# Altium integrated library WCAP-AS5H_rev15a.intlib: 51 symbols (part 1 of 2)
Pins are listed as number, name and electrical type; pins without a type are passive.

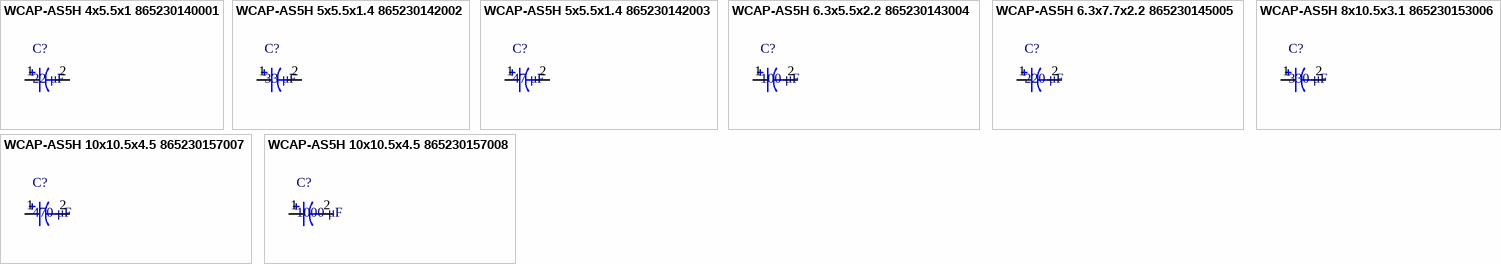
[diagram p0: symbols WCAP-AS5H 4x5.5x1 865230140001 to WCAP-AS5H 10x10.5x4.5 865230157008]

## WCAP-AS5H 4x5.5x1 865230140001
designator C?, comment 22 μF
WCAP-AS5H Aluminum Electrolytic Capacitors , 22 μF; + / - 20%; 6,3 V , 4 x 5,5; Manufacturer: Wurth Elektronik; partNo: 865230140001; E-mail: libraries@we-online.com; Characteristics: Aluminum Electrolytic Capacitor; Recommended soldering: Reflow; Operating temperature: –40 °C to +105 °C; Long life product series; Load life: 5000 h @ +105 °C; ComponentLink1Description: Manufacturer; ComponentLink1URL: http://www.we-online.com; ComponentLink2Description: Datasheet; ComponentLink2URL: http://katalog.we-online.de/pbs/datasheet/865230140001.pdf; Created by: Karrer Zheng; Created Date: 6/12/2015; Capacitance: 22 μF; Application: Applied to circuit with higher requirements for long life, and can be use for filtering in switching power supply, DC-DC power supply module,conversion adapter, charger, DC motor circuit filter, digital audio, digital TV, digital camera, digital video camera, satellite receivers, equipment control panel power supply and etc.
footprint WCAP-AS5H 4x5.5x1
pins: 1, 2

## WCAP-AS5H 5x5.5x1.4 865230142002
designator C?, comment 33 μF
WCAP-AS5H Aluminum Electrolytic Capacitors , 33 μF; + / - 20%; 6,3 V , 5 x 5,5; Manufacturer: Wurth Elektronik; partNo: 865230142002; E-mail: libraries@we-online.com; Characteristics: Aluminum Electrolytic Capacitor; Recommended soldering: Reflow; Operating temperature: –40 °C to +105 °C; Long life product series; Load life: 5000 h @ +105 °C; ComponentLink1Description: Manufacturer; ComponentLink1URL: http://www.we-online.com; ComponentLink2Description: Datasheet; ComponentLink2URL: http://katalog.we-online.de/pbs/datasheet/865230142002.pdf; Created by: Karrer Zheng; Created Date: 6/12/2015; Capacitance: 33 μF; Application: Applied to circuit with higher requirements for long life, and can be use for filtering in switching power supply, DC-DC power supply module,conversion adapter, charger, DC motor circuit filter, digital audio, digital TV, digital camera, digital video camera, satellite receivers, equipment control panel power supply and etc.
footprint WCAP-AS5H 5x5.5x1.4
pins: 1, 2

## WCAP-AS5H 5x5.5x1.4 865230142003
designator C?, comment 47 μF
WCAP-AS5H Aluminum Electrolytic Capacitors , 47 μF; + / - 20%; 6,3 V , 5 x 5,5; Manufacturer: Wurth Elektronik; partNo: 865230142003; E-mail: libraries@we-online.com; Characteristics: Aluminum Electrolytic Capacitor; Recommended soldering: Reflow; Operating temperature: –40 °C to +105 °C; Long life product series; Load life: 5000 h @ +105 °C; ComponentLink1Description: Manufacturer; ComponentLink1URL: http://www.we-online.com; ComponentLink2Description: Datasheet; ComponentLink2URL: http://katalog.we-online.de/pbs/datasheet/865230142003.pdf; Created by: Karrer Zheng; Created Date: 6/12/2015; Capacitance: 47 μF; Application: Applied to circuit with higher requirements for long life, and can be use for filtering in switching power supply, DC-DC power supply module,conversion adapter, charger, DC motor circuit filter, digital audio, digital TV, digital camera, digital video camera, satellite receivers, equipment control panel power supply and etc.
footprint WCAP-AS5H 5x5.5x1.4
pins: 1, 2

## WCAP-AS5H 6.3x5.5x2.2 865230143004
designator C?, comment 100 μF
WCAP-AS5H Aluminum Electrolytic Capacitors , 100 μF; + / - 20%; 6,3 V , 6,3 x 5,5; Manufacturer: Wurth Elektronik; partNo: 865230143004; E-mail: libraries@we-online.com; Characteristics: Aluminum Electrolytic Capacitor; Recommended soldering: Reflow; Operating temperature: –40 °C to +105 °C; Long life product series; Load life: 5000 h @ +105 °C; ComponentLink1Description: Manufacturer; ComponentLink1URL: http://www.we-online.com; ComponentLink2Description: Datasheet; ComponentLink2URL: http://katalog.we-online.de/pbs/datasheet/865230143004.pdf; Created by: Karrer Zheng; Created Date: 6/12/2015; Capacitance: 100 μF; Application: Applied to circuit with higher requirements for long life, and can be use for filtering in switching power supply, DC-DC power supply module,conversion adapter, charger, DC motor circuit filter, digital audio, digital TV, digital camera, digital video camera, satellite receivers, equipment control panel power supply and etc.
footprint WCAP-AS5H 6.3x5.5x2.2
pins: 1, 2

## WCAP-AS5H 6.3x7.7x2.2 865230145005
designator C?, comment 220 μF
WCAP-AS5H Aluminum Electrolytic Capacitors , 220 μF; + / - 20%; 6,3 V , 6,3 x 7,7; Manufacturer: Wurth Elektronik; partNo: 865230145005; E-mail: libraries@we-online.com; Characteristics: Aluminum Electrolytic Capacitor; Recommended soldering: Reflow; Operating temperature: –40 °C to +105 °C; Long life product series; Load life: 5000 h @ +105 °C; ComponentLink1Description: Manufacturer; ComponentLink1URL: http://www.we-online.com; ComponentLink2Description: Datasheet; ComponentLink2URL: http://katalog.we-online.de/pbs/datasheet/865230145005.pdf; Created by: Karrer Zheng; Created Date: 6/12/2015; Capacitance: 220 μF; Application: Applied to circuit with higher requirements for long life, and can be use for filtering in switching power supply, DC-DC power supply module,conversion adapter, charger, DC motor circuit filter, digital audio, digital TV, digital camera, digital video camera, satellite receivers, equipment control panel power supply and etc.
footprint WCAP-AS5H 6.3x7.7x2.2
pins: 1, 2

## WCAP-AS5H 8x10.5x3.1 865230153006
designator C?, comment 330 μF
WCAP-AS5H Aluminum Electrolytic Capacitors , 330 μF; + / - 20%; 6,3 V , 8 x 10,5; Manufacturer: Wurth Elektronik; partNo: 865230153006; E-mail: libraries@we-online.com; Characteristics: Aluminum Electrolytic Capacitor; Recommended soldering: Reflow; Operating temperature: –40 °C to +105 °C; Long life product series; Load life: 5000 h @ +105 °C; ComponentLink1Description: Manufacturer; ComponentLink1URL: http://www.we-online.com; ComponentLink2Description: Datasheet; ComponentLink2URL: http://katalog.we-online.de/pbs/datasheet/865230153006.pdf; Created by: Karrer Zheng; Created Date: 6/12/2015; Capacitance: 330 μF; Application: Applied to circuit with higher requirements for long life, and can be use for filtering in switching power supply, DC-DC power supply module,conversion adapter, charger, DC motor circuit filter, digital audio, digital TV, digital camera, digital video camera, satellite receivers, equipment control panel power supply and etc.
footprint WCAP-AS5H 8x10.5x3.1
pins: 1, 2

## WCAP-AS5H 10x10.5x4.5 865230157007
designator C?, comment 470 μF
WCAP-AS5H Aluminum Electrolytic Capacitors , 470 μF; + / - 20%; 6,3 V , 10 x 10,5; Manufacturer: Wurth Elektronik; partNo: 865230157007; E-mail: libraries@we-online.com; Characteristics: Aluminum Electrolytic Capacitor; Recommended soldering: Reflow; Operating temperature: –40 °C to +105 °C; Long life product series; Load life: 5000 h @ +105 °C; ComponentLink1Description: Manufacturer; ComponentLink1URL: http://www.we-online.com; ComponentLink2Description: Datasheet; ComponentLink2URL: http://katalog.we-online.de/pbs/datasheet/865230157007.pdf; Created by: Karrer Zheng; Created Date: 6/12/2015; Capacitance: 470 μF; Application: Applied to circuit with higher requirements for long life, and can be use for filtering in switching power supply, DC-DC power supply module,conversion adapter, charger, DC motor circuit filter, digital audio, digital TV, digital camera, digital video camera, satellite receivers, equipment control panel power supply and etc.
footprint WCAP-AS5H 10x10.5x4.5
pins: 1, 2

## WCAP-AS5H 10x10.5x4.5 865230157008
designator C?, comment 1000 μF
WCAP-AS5H Aluminum Electrolytic Capacitors , 1000 μF; + / - 20%; 6,3 V , 10 x 10,5; Manufacturer: Wurth Elektronik; partNo: 865230157008; E-mail: libraries@we-online.com; Characteristics: Aluminum Electrolytic Capacitor; Recommended soldering: Reflow; Operating temperature: –40 °C to +105 °C; Long life product series; Load life: 5000 h @ +105 °C; ComponentLink1Description: Manufacturer; ComponentLink1URL: http://www.we-online.com; ComponentLink2Description: Datasheet; ComponentLink2URL: http://katalog.we-online.de/pbs/datasheet/865230157008.pdf; Created by: Karrer Zheng; Created Date: 6/12/2015; Capacitance: 1000 μF; Application: Applied to circuit with higher requirements for long life, and can be use for filtering in switching power supply, DC-DC power supply module,conversion adapter, charger, DC motor circuit filter, digital audio, digital TV, digital camera, digital video camera, satellite receivers, equipment control panel power supply and etc.
footprint WCAP-AS5H 10x10.5x4.5
pins: 1, 2


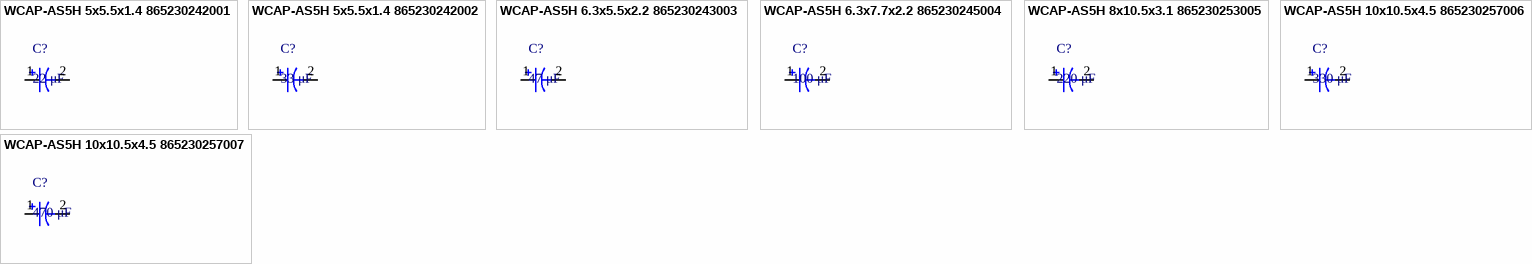
[diagram p1: symbols WCAP-AS5H 5x5.5x1.4 865230242001 to WCAP-AS5H 10x10.5x4.5 865230257007]

## WCAP-AS5H 5x5.5x1.4 865230242001
designator C?, comment 22 μF
WCAP-AS5H Aluminum Electrolytic Capacitors , 22 μF; + / - 20%; 10 V , 5 x 5,5; Manufacturer: Wurth Elektronik; partNo: 865230242001; E-mail: libraries@we-online.com; Characteristics: Aluminum Electrolytic Capacitor; Recommended soldering: Reflow; Operating temperature: –40 °C to +105 °C; Long life product series; Load life: 5000 h @ +105 °C; ComponentLink1Description: Manufacturer; ComponentLink1URL: http://www.we-online.com; ComponentLink2Description: Datasheet; ComponentLink2URL: http://katalog.we-online.de/pbs/datasheet/865230242001.pdf; Created by: Karrer Zheng; Created Date: 6/12/2015; Capacitance: 22 μF; Application: Applied to circuit with higher requirements for long life, and can be use for filtering in switching power supply, DC-DC power supply module,conversion adapter, charger, DC motor circuit filter, digital audio, digital TV, digital camera, digital video camera, satellite receivers, equipment control panel power supply and etc.
footprint WCAP-AS5H 5x5.5x1.4
pins: 1, 2

## WCAP-AS5H 5x5.5x1.4 865230242002
designator C?, comment 33 μF
WCAP-AS5H Aluminum Electrolytic Capacitors , 33 μF; + / - 20%; 10 V , 5 x 5,5; Manufacturer: Wurth Elektronik; partNo: 865230242002; E-mail: libraries@we-online.com; Characteristics: Aluminum Electrolytic Capacitor; Recommended soldering: Reflow; Operating temperature: –40 °C to +105 °C; Long life product series; Load life: 5000 h @ +105 °C; ComponentLink1Description: Manufacturer; ComponentLink1URL: http://www.we-online.com; ComponentLink2Description: Datasheet; ComponentLink2URL: http://katalog.we-online.de/pbs/datasheet/865230242002.pdf; Created by: Karrer Zheng; Created Date: 6/12/2015; Capacitance: 33 μF; Application: Applied to circuit with higher requirements for long life, and can be use for filtering in switching power supply, DC-DC power supply module,conversion adapter, charger, DC motor circuit filter, digital audio, digital TV, digital camera, digital video camera, satellite receivers, equipment control panel power supply and etc.
footprint WCAP-AS5H 5x5.5x1.4
pins: 1, 2

## WCAP-AS5H 6.3x5.5x2.2 865230243003
designator C?, comment 47 μF
WCAP-AS5H Aluminum Electrolytic Capacitors , 47 μF; + / - 20%; 10 V , 6,3 x 5,5; Manufacturer: Wurth Elektronik; partNo: 865230243003; E-mail: libraries@we-online.com; Characteristics: Aluminum Electrolytic Capacitor; Recommended soldering: Reflow; Operating temperature: –40 °C to +105 °C; Long life product series; Load life: 5000 h @ +105 °C; ComponentLink1Description: Manufacturer; ComponentLink1URL: http://www.we-online.com; ComponentLink2Description: Datasheet; ComponentLink2URL: http://katalog.we-online.de/pbs/datasheet/865230243003.pdf; Created by: Karrer Zheng; Created Date: 6/12/2015; Capacitance: 47 μF; Application: Applied to circuit with higher requirements for long life, and can be use for filtering in switching power supply, DC-DC power supply module,conversion adapter, charger, DC motor circuit filter, digital audio, digital TV, digital camera, digital video camera, satellite receivers, equipment control panel power supply and etc.
footprint WCAP-AS5H 6.3x5.5x2.2
pins: 1, 2

## WCAP-AS5H 6.3x7.7x2.2 865230245004
designator C?, comment 100 μF
WCAP-AS5H Aluminum Electrolytic Capacitors , 100 μF; + / - 20%; 10 V , 6,3 x 7,7; Manufacturer: Wurth Elektronik; partNo: 865230245004; E-mail: libraries@we-online.com; Characteristics: Aluminum Electrolytic Capacitor; Recommended soldering: Reflow; Operating temperature: –40 °C to +105 °C; Long life product series; Load life: 5000 h @ +105 °C; ComponentLink1Description: Manufacturer; ComponentLink1URL: http://www.we-online.com; ComponentLink2Description: Datasheet; ComponentLink2URL: http://katalog.we-online.de/pbs/datasheet/865230245004.pdf; Created by: Karrer Zheng; Created Date: 6/12/2015; Capacitance: 100 μF; Application: Applied to circuit with higher requirements for long life, and can be use for filtering in switching power supply, DC-DC power supply module,conversion adapter, charger, DC motor circuit filter, digital audio, digital TV, digital camera, digital video camera, satellite receivers, equipment control panel power supply and etc.
footprint WCAP-AS5H 6.3x7.7x2.2
pins: 1, 2

## WCAP-AS5H 8x10.5x3.1 865230253005
designator C?, comment 220 μF
WCAP-AS5H Aluminum Electrolytic Capacitors , 220 μF; + / - 20%; 10 V , 8 x 10,5; Manufacturer: Wurth Elektronik; partNo: 865230253005; E-mail: libraries@we-online.com; Characteristics: Aluminum Electrolytic Capacitor; Recommended soldering: Reflow; Operating temperature: –40 °C to +105 °C; Long life product series; Load life: 5000 h @ +105 °C; ComponentLink1Description: Manufacturer; ComponentLink1URL: http://www.we-online.com; ComponentLink2Description: Datasheet; ComponentLink2URL: http://katalog.we-online.de/pbs/datasheet/865230253005.pdf; Created by: Karrer Zheng; Created Date: 6/12/2015; Capacitance: 220 μF; Application: Applied to circuit with higher requirements for long life, and can be use for filtering in switching power supply, DC-DC power supply module,conversion adapter, charger, DC motor circuit filter, digital audio, digital TV, digital camera, digital video camera, satellite receivers, equipment control panel power supply and etc.
footprint WCAP-AS5H 8x10.5x3.1
pins: 1, 2

## WCAP-AS5H 10x10.5x4.5 865230257006
designator C?, comment 330 μF
WCAP-AS5H Aluminum Electrolytic Capacitors , 330 μF; + / - 20%; 10 V , 10 x 10,5; Manufacturer: Wurth Elektronik; partNo: 865230257006; E-mail: libraries@we-online.com; Characteristics: Aluminum Electrolytic Capacitor; Recommended soldering: Reflow; Operating temperature: –40 °C to +105 °C; Long life product series; Load life: 5000 h @ +105 °C; ComponentLink1Description: Manufacturer; ComponentLink1URL: http://www.we-online.com; ComponentLink2Description: Datasheet; ComponentLink2URL: http://katalog.we-online.de/pbs/datasheet/865230257006.pdf; Created by: Karrer Zheng; Created Date: 6/12/2015; Capacitance: 330 μF; Application: Applied to circuit with higher requirements for long life, and can be use for filtering in switching power supply, DC-DC power supply module,conversion adapter, charger, DC motor circuit filter, digital audio, digital TV, digital camera, digital video camera, satellite receivers, equipment control panel power supply and etc.
footprint WCAP-AS5H 10x10.5x4.5
pins: 1, 2

## WCAP-AS5H 10x10.5x4.5 865230257007
designator C?, comment 470 μF
WCAP-AS5H Aluminum Electrolytic Capacitors , 470 μF; + / - 20%; 10 V , 10 x 10,5; Manufacturer: Wurth Elektronik; partNo: 865230257007; E-mail: libraries@we-online.com; Characteristics: Aluminum Electrolytic Capacitor; Recommended soldering: Reflow; Operating temperature: –40 °C to +105 °C; Long life product series; Load life: 5000 h @ +105 °C; ComponentLink1Description: Manufacturer; ComponentLink1URL: http://www.we-online.com; ComponentLink2Description: Datasheet; ComponentLink2URL: http://katalog.we-online.de/pbs/datasheet/865230257007.pdf; Created by: Karrer Zheng; Created Date: 6/12/2015; Capacitance: 470 μF; Application: Applied to circuit with higher requirements for long life, and can be use for filtering in switching power supply, DC-DC power supply module,conversion adapter, charger, DC motor circuit filter, digital audio, digital TV, digital camera, digital video camera, satellite receivers, equipment control panel power supply and etc.
footprint WCAP-AS5H 10x10.5x4.5
pins: 1, 2


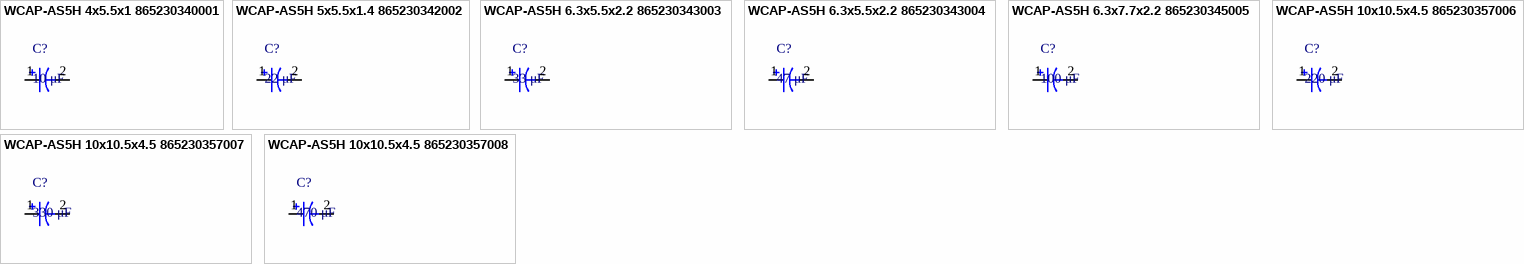
[diagram p2: symbols WCAP-AS5H 4x5.5x1 865230340001 to WCAP-AS5H 10x10.5x4.5 865230357008]

## WCAP-AS5H 4x5.5x1 865230340001
designator C?, comment 10 μF
WCAP-AS5H Aluminum Electrolytic Capacitors , 10 μF; + / - 20%; 16 V , 4 x 5,5; Manufacturer: Wurth Elektronik; partNo: 865230340001; E-mail: libraries@we-online.com; Characteristics: Aluminum Electrolytic Capacitor; Recommended soldering: Reflow; Operating temperature: –40 °C to +105 °C; Long life product series; Load life: 5000 h @ +105 °C; ComponentLink1Description: Manufacturer; ComponentLink1URL: http://www.we-online.com; ComponentLink2Description: Datasheet; ComponentLink2URL: http://katalog.we-online.de/pbs/datasheet/865230340001.pdf; Created by: Karrer Zheng; Created Date: 6/12/2015; Capacitance: 10 μF; Application: Applied to circuit with higher requirements for long life, and can be use for filtering in switching power supply, DC-DC power supply module,conversion adapter, charger, DC motor circuit filter, digital audio, digital TV, digital camera, digital video camera, satellite receivers, equipment control panel power supply and etc.
footprint WCAP-AS5H 4x5.5x1
pins: 1, 2

## WCAP-AS5H 5x5.5x1.4 865230342002
designator C?, comment 22 μF
WCAP-AS5H Aluminum Electrolytic Capacitors , 22 μF; + / - 20%; 16 V , 5 x 5,5; Manufacturer: Wurth Elektronik; partNo: 865230342002; E-mail: libraries@we-online.com; Characteristics: Aluminum Electrolytic Capacitor; Recommended soldering: Reflow; Operating temperature: –40 °C to +105 °C; Long life product series; Load life: 5000 h @ +105 °C; ComponentLink1Description: Manufacturer; ComponentLink1URL: http://www.we-online.com; ComponentLink2Description: Datasheet; ComponentLink2URL: http://katalog.we-online.de/pbs/datasheet/865230342002.pdf; Created by: Karrer Zheng; Created Date: 6/12/2015; Capacitance: 22 μF; Application: Applied to circuit with higher requirements for long life, and can be use for filtering in switching power supply, DC-DC power supply module,conversion adapter, charger, DC motor circuit filter, digital audio, digital TV, digital camera, digital video camera, satellite receivers, equipment control panel power supply and etc.
footprint WCAP-AS5H 5x5.5x1.4
pins: 1, 2

## WCAP-AS5H 6.3x5.5x2.2 865230343003
designator C?, comment 33 μF
WCAP-AS5H Aluminum Electrolytic Capacitors , 33 μF; + / - 20%; 16 V , 6,3 x 5,5; Manufacturer: Wurth Elektronik; partNo: 865230343003; E-mail: libraries@we-online.com; Characteristics: Aluminum Electrolytic Capacitor; Recommended soldering: Reflow; Operating temperature: –40 °C to +105 °C; Long life product series; Load life: 5000 h @ +105 °C; ComponentLink1Description: Manufacturer; ComponentLink1URL: http://www.we-online.com; ComponentLink2Description: Datasheet; ComponentLink2URL: http://katalog.we-online.de/pbs/datasheet/865230343003.pdf; Created by: Karrer Zheng; Created Date: 6/12/2015; Capacitance: 33 μF; Application: Applied to circuit with higher requirements for long life, and can be use for filtering in switching power supply, DC-DC power supply module,conversion adapter, charger, DC motor circuit filter, digital audio, digital TV, digital camera, digital video camera, satellite receivers, equipment control panel power supply and etc.
footprint WCAP-AS5H 6.3x5.5x2.2
pins: 1, 2

## WCAP-AS5H 6.3x5.5x2.2 865230343004
designator C?, comment 47 μF
WCAP-AS5H Aluminum Electrolytic Capacitors , 47 μF; + / - 20%; 16 V , 6,3 x 5,5; Manufacturer: Wurth Elektronik; partNo: 865230343004; E-mail: libraries@we-online.com; Characteristics: Aluminum Electrolytic Capacitor; Recommended soldering: Reflow; Operating temperature: –40 °C to +105 °C; Long life product series; Load life: 5000 h @ +105 °C; ComponentLink1Description: Manufacturer; ComponentLink1URL: http://www.we-online.com; ComponentLink2Description: Datasheet; ComponentLink2URL: http://katalog.we-online.de/pbs/datasheet/865230343004.pdf; Created by: Karrer Zheng; Created Date: 6/12/2015; Capacitance: 47 μF; Application: Applied to circuit with higher requirements for long life, and can be use for filtering in switching power supply, DC-DC power supply module,conversion adapter, charger, DC motor circuit filter, digital audio, digital TV, digital camera, digital video camera, satellite receivers, equipment control panel power supply and etc.
footprint WCAP-AS5H 6.3x5.5x2.2
pins: 1, 2

## WCAP-AS5H 6.3x7.7x2.2 865230345005
designator C?, comment 100 μF
WCAP-AS5H Aluminum Electrolytic Capacitors , 100 μF; + / - 20%; 16 V , 6,3 x 7,7; Manufacturer: Wurth Elektronik; partNo: 865230345005; E-mail: libraries@we-online.com; Characteristics: Aluminum Electrolytic Capacitor; Recommended soldering: Reflow; Operating temperature: –40 °C to +105 °C; Long life product series; Load life: 5000 h @ +105 °C; ComponentLink1Description: Manufacturer; ComponentLink1URL: http://www.we-online.com; ComponentLink2Description: Datasheet; ComponentLink2URL: http://katalog.we-online.de/pbs/datasheet/865230345005.pdf; Created by: Karrer Zheng; Created Date: 6/12/2015; Capacitance: 100 μF; Application: Applied to circuit with higher requirements for long life, and can be use for filtering in switching power supply, DC-DC power supply module,conversion adapter, charger, DC motor circuit filter, digital audio, digital TV, digital camera, digital video camera, satellite receivers, equipment control panel power supply and etc.
footprint WCAP-AS5H 6.3x7.7x2.2
pins: 1, 2

## WCAP-AS5H 10x10.5x4.5 865230357006
designator C?, comment 220 μF
WCAP-AS5H Aluminum Electrolytic Capacitors , 220 μF; + / - 20%; 16 V , 10 x 10,5; Manufacturer: Wurth Elektronik; partNo: 865230357006; E-mail: libraries@we-online.com; Characteristics: Aluminum Electrolytic Capacitor; Recommended soldering: Reflow; Operating temperature: –40 °C to +105 °C; Long life product series; Load life: 5000 h @ +105 °C; ComponentLink1Description: Manufacturer; ComponentLink1URL: http://www.we-online.com; ComponentLink2Description: Datasheet; ComponentLink2URL: http://katalog.we-online.de/pbs/datasheet/865230357006.pdf; Created by: Karrer Zheng; Created Date: 6/12/2015; Capacitance: 220 μF; Application: Applied to circuit with higher requirements for long life, and can be use for filtering in switching power supply, DC-DC power supply module,conversion adapter, charger, DC motor circuit filter, digital audio, digital TV, digital camera, digital video camera, satellite receivers, equipment control panel power supply and etc.
footprint WCAP-AS5H 10x10.5x4.5
pins: 1, 2

## WCAP-AS5H 10x10.5x4.5 865230357007
designator C?, comment 330 μF
WCAP-AS5H Aluminum Electrolytic Capacitors , 330 μF; + / - 20%; 16 V , 10 x 10,5; Manufacturer: Wurth Elektronik; partNo: 865230357007; E-mail: libraries@we-online.com; Characteristics: Aluminum Electrolytic Capacitor; Recommended soldering: Reflow; Operating temperature: –40 °C to +105 °C; Long life product series; Load life: 5000 h @ +105 °C; ComponentLink1Description: Manufacturer; ComponentLink1URL: http://www.we-online.com; ComponentLink2Description: Datasheet; ComponentLink2URL: http://katalog.we-online.de/pbs/datasheet/865230357007.pdf; Created by: Karrer Zheng; Created Date: 6/12/2015; Capacitance: 330 μF; Application: Applied to circuit with higher requirements for long life, and can be use for filtering in switching power supply, DC-DC power supply module,conversion adapter, charger, DC motor circuit filter, digital audio, digital TV, digital camera, digital video camera, satellite receivers, equipment control panel power supply and etc.
footprint WCAP-AS5H 10x10.5x4.5
pins: 1, 2

## WCAP-AS5H 10x10.5x4.5 865230357008
designator C?, comment 470 μF
WCAP-AS5H Aluminum Electrolytic Capacitors , 470 μF; + / - 20%; 16 V , 10 x 10,5; Manufacturer: Wurth Elektronik; partNo: 865230357008; E-mail: libraries@we-online.com; Characteristics: Aluminum Electrolytic Capacitor; Recommended soldering: Reflow; Operating temperature: –40 °C to +105 °C; Long life product series; Load life: 5000 h @ +105 °C; ComponentLink1Description: Manufacturer; ComponentLink1URL: http://www.we-online.com; ComponentLink2Description: Datasheet; ComponentLink2URL: http://katalog.we-online.de/pbs/datasheet/865230357008.pdf; Created by: Karrer Zheng; Created Date: 6/12/2015; Capacitance: 470 μF; Application: Applied to circuit with higher requirements for long life, and can be use for filtering in switching power supply, DC-DC power supply module,conversion adapter, charger, DC motor circuit filter, digital audio, digital TV, digital camera, digital video camera, satellite receivers, equipment control panel power supply and etc.
footprint WCAP-AS5H 10x10.5x4.5
pins: 1, 2


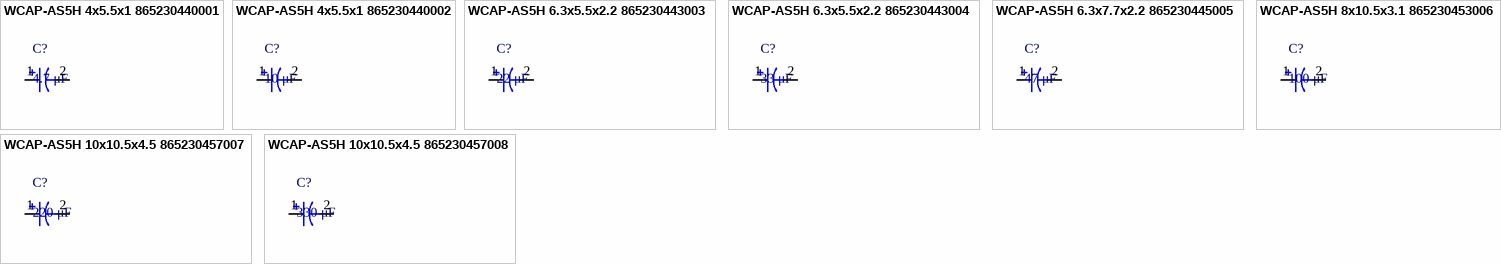
[diagram p3: symbols WCAP-AS5H 4x5.5x1 865230440001 to WCAP-AS5H 10x10.5x4.5 865230457008]

## WCAP-AS5H 4x5.5x1 865230440001
designator C?, comment 4.7 μF
WCAP-AS5H Aluminum Electrolytic Capacitors , 4,7 μF; + / - 20%; 25 V , 4 x 5,5; Manufacturer: Wurth Elektronik; partNo: 865230440001; E-mail: libraries@we-online.com; Characteristics: Aluminum Electrolytic Capacitor; Recommended soldering: Reflow; Operating temperature: –40 °C to +105 °C; Long life product series; Load life: 5000 h @ +105 °C; ComponentLink1Description: Manufacturer; ComponentLink1URL: http://www.we-online.com; ComponentLink2Description: Datasheet; ComponentLink2URL: http://katalog.we-online.de/pbs/datasheet/865230440001.pdf; Created by: Karrer Zheng; Created Date: 6/12/2015; Capacitance: 4.7 μF; Application: Applied to circuit with higher requirements for long life, and can be use for filtering in switching power supply, DC-DC power supply module,conversion adapter, charger, DC motor circuit filter, digital audio, digital TV, digital camera, digital video camera, satellite receivers, equipment control panel power supply and etc.
footprint WCAP-AS5H 4x5.5x1
pins: 1, 2

## WCAP-AS5H 4x5.5x1 865230440002
designator C?, comment 10 μF
WCAP-AS5H Aluminum Electrolytic Capacitors , 10 μF; + / - 20%; 25 V , 4 x 5,5; Manufacturer: Wurth Elektronik; partNo: 865230440002; E-mail: libraries@we-online.com; Characteristics: Aluminum Electrolytic Capacitor; Recommended soldering: Reflow; Operating temperature: –40 °C to +105 °C; Long life product series; Load life: 5000 h @ +105 °C; ComponentLink1Description: Manufacturer; ComponentLink1URL: http://www.we-online.com; ComponentLink2Description: Datasheet; ComponentLink2URL: http://katalog.we-online.de/pbs/datasheet/865230440002.pdf; Created by: Karrer Zheng; Created Date: 6/12/2015; Capacitance: 10 μF; Application: Applied to circuit with higher requirements for long life, and can be use for filtering in switching power supply, DC-DC power supply module,conversion adapter, charger, DC motor circuit filter, digital audio, digital TV, digital camera, digital video camera, satellite receivers, equipment control panel power supply and etc.
footprint WCAP-AS5H 4x5.5x1
pins: 1, 2

## WCAP-AS5H 6.3x5.5x2.2 865230443003
designator C?, comment 22 μF
WCAP-AS5H Aluminum Electrolytic Capacitors , 22 μF; + / - 20%; 25 V , 6,3 x 5,5; Manufacturer: Wurth Elektronik; partNo: 865230443003; E-mail: libraries@we-online.com; Characteristics: Aluminum Electrolytic Capacitor; Recommended soldering: Reflow; Operating temperature: –40 °C to +105 °C; Long life product series; Load life: 5000 h @ +105 °C; ComponentLink1Description: Manufacturer; ComponentLink1URL: http://www.we-online.com; ComponentLink2Description: Datasheet; ComponentLink2URL: http://katalog.we-online.de/pbs/datasheet/865230443003.pdf; Created by: Karrer Zheng; Created Date: 6/12/2015; Capacitance: 22 μF; Application: Applied to circuit with higher requirements for long life, and can be use for filtering in switching power supply, DC-DC power supply module,conversion adapter, charger, DC motor circuit filter, digital audio, digital TV, digital camera, digital video camera, satellite receivers, equipment control panel power supply and etc.
footprint WCAP-AS5H 6.3x5.5x2.2
pins: 1, 2

## WCAP-AS5H 6.3x5.5x2.2 865230443004
designator C?, comment 33 μF
WCAP-AS5H Aluminum Electrolytic Capacitors , 33 μF; + / - 20%; 25 V , 6,3 x 5,5; Manufacturer: Wurth Elektronik; partNo: 865230443004; E-mail: libraries@we-online.com; Characteristics: Aluminum Electrolytic Capacitor; Recommended soldering: Reflow; Operating temperature: –40 °C to +105 °C; Long life product series; Load life: 5000 h @ +105 °C; ComponentLink1Description: Manufacturer; ComponentLink1URL: http://www.we-online.com; ComponentLink2Description: Datasheet; ComponentLink2URL: http://katalog.we-online.de/pbs/datasheet/865230443004.pdf; Created by: Karrer Zheng; Created Date: 6/12/2015; Capacitance: 33 μF; Application: Applied to circuit with higher requirements for long life, and can be use for filtering in switching power supply, DC-DC power supply module,conversion adapter, charger, DC motor circuit filter, digital audio, digital TV, digital camera, digital video camera, satellite receivers, equipment control panel power supply and etc.
footprint WCAP-AS5H 6.3x5.5x2.2
pins: 1, 2

## WCAP-AS5H 6.3x7.7x2.2 865230445005
designator C?, comment 47 μF
WCAP-AS5H Aluminum Electrolytic Capacitors , 47 μF; + / - 20%; 25 V , 6,3 x 7,7; Manufacturer: Wurth Elektronik; partNo: 865230445005; E-mail: libraries@we-online.com; Characteristics: Aluminum Electrolytic Capacitor; Recommended soldering: Reflow; Operating temperature: –40 °C to +105 °C; Long life product series; Load life: 5000 h @ +105 °C; ComponentLink1Description: Manufacturer; ComponentLink1URL: http://www.we-online.com; ComponentLink2Description: Datasheet; ComponentLink2URL: http://katalog.we-online.de/pbs/datasheet/865230445005.pdf; Created by: Karrer Zheng; Created Date: 6/12/2015; Capacitance: 47 μF; Application: Applied to circuit with higher requirements for long life, and can be use for filtering in switching power supply, DC-DC power supply module,conversion adapter, charger, DC motor circuit filter, digital audio, digital TV, digital camera, digital video camera, satellite receivers, equipment control panel power supply and etc.
footprint WCAP-AS5H 6.3x7.7x2.2
pins: 1, 2

## WCAP-AS5H 8x10.5x3.1 865230453006
designator C?, comment 100 μF
WCAP-AS5H Aluminum Electrolytic Capacitors , 100 μF; + / - 20%; 25 V , 8 x 10,5; Manufacturer: Wurth Elektronik; partNo: 865230453006; E-mail: libraries@we-online.com; Characteristics: Aluminum Electrolytic Capacitor; Recommended soldering: Reflow; Operating temperature: –40 °C to +105 °C; Long life product series; Load life: 5000 h @ +105 °C; ComponentLink1Description: Manufacturer; ComponentLink1URL: http://www.we-online.com; ComponentLink2Description: Datasheet; ComponentLink2URL: http://katalog.we-online.de/pbs/datasheet/865230453006.pdf; Created by: Karrer Zheng; Created Date: 6/12/2015; Capacitance: 100 μF; Application: Applied to circuit with higher requirements for long life, and can be use for filtering in switching power supply, DC-DC power supply module,conversion adapter, charger, DC motor circuit filter, digital audio, digital TV, digital camera, digital video camera, satellite receivers, equipment control panel power supply and etc.
footprint WCAP-AS5H 8x10.5x3.1
pins: 1, 2

## WCAP-AS5H 10x10.5x4.5 865230457007
designator C?, comment 220 μF
WCAP-AS5H Aluminum Electrolytic Capacitors , 220 μF; + / - 20%; 25 V , 10 x 10,5; Manufacturer: Wurth Elektronik; partNo: 865230457007; E-mail: libraries@we-online.com; Characteristics: Aluminum Electrolytic Capacitor; Recommended soldering: Reflow; Operating temperature: –40 °C to +105 °C; Long life product series; Load life: 5000 h @ +105 °C; ComponentLink1Description: Manufacturer; ComponentLink1URL: http://www.we-online.com; ComponentLink2Description: Datasheet; ComponentLink2URL: http://katalog.we-online.de/pbs/datasheet/865230457007.pdf; Created by: Karrer Zheng; Created Date: 6/12/2015; Capacitance: 220 μF; Application: Applied to circuit with higher requirements for long life, and can be use for filtering in switching power supply, DC-DC power supply module,conversion adapter, charger, DC motor circuit filter, digital audio, digital TV, digital camera, digital video camera, satellite receivers, equipment control panel power supply and etc.
footprint WCAP-AS5H 10x10.5x4.5
pins: 1, 2

## WCAP-AS5H 10x10.5x4.5 865230457008
designator C?, comment 330 μF
WCAP-AS5H Aluminum Electrolytic Capacitors , 330 μF; + / - 20%; 25 V , 10 x 10,5; Manufacturer: Wurth Elektronik; partNo: 865230457008; E-mail: libraries@we-online.com; Characteristics: Aluminum Electrolytic Capacitor; Recommended soldering: Reflow; Operating temperature: –40 °C to +105 °C; Long life product series; Load life: 5000 h @ +105 °C; ComponentLink1Description: Manufacturer; ComponentLink1URL: http://www.we-online.com; ComponentLink2Description: Datasheet; ComponentLink2URL: http://katalog.we-online.de/pbs/datasheet/865230457008.pdf; Created by: Karrer Zheng; Created Date: 6/12/2015; Capacitance: 330 μF; Application: Applied to circuit with higher requirements for long life, and can be use for filtering in switching power supply, DC-DC power supply module,conversion adapter, charger, DC motor circuit filter, digital audio, digital TV, digital camera, digital video camera, satellite receivers, equipment control panel power supply and etc.
footprint WCAP-AS5H 10x10.5x4.5
pins: 1, 2


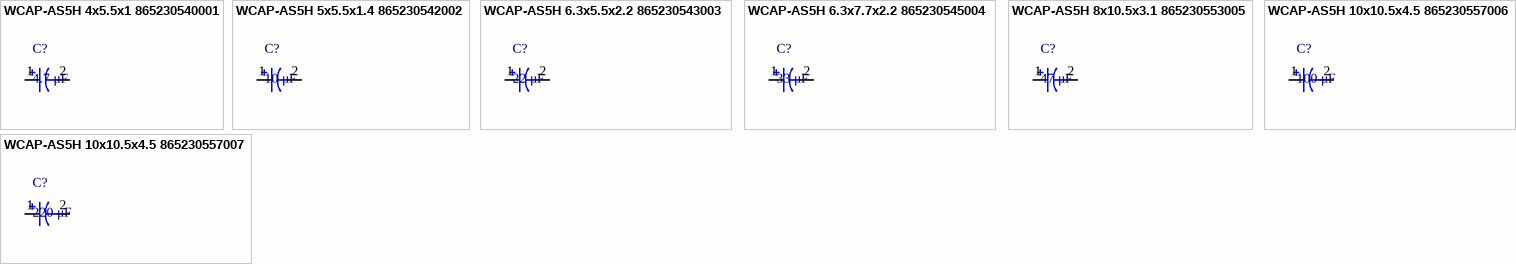
[diagram p4: symbols WCAP-AS5H 4x5.5x1 865230540001 to WCAP-AS5H 10x10.5x4.5 865230557007]

## WCAP-AS5H 4x5.5x1 865230540001
designator C?, comment 4.7 μF
WCAP-AS5H Aluminum Electrolytic Capacitors , 4,7 μF; + / - 20%; 35 V , 4 x 5,5; Manufacturer: Wurth Elektronik; partNo: 865230540001; E-mail: libraries@we-online.com; Characteristics: Aluminum Electrolytic Capacitor; Recommended soldering: Reflow; Operating temperature: –40 °C to +105 °C; Long life product series; Load life: 5000 h @ +105 °C; ComponentLink1Description: Manufacturer; ComponentLink1URL: http://www.we-online.com; ComponentLink2Description: Datasheet; ComponentLink2URL: http://katalog.we-online.de/pbs/datasheet/865230540001.pdf; Created by: Karrer Zheng; Created Date: 6/12/2015; Capacitance: 4.7 μF; Application: Applied to circuit with higher requirements for long life, and can be use for filtering in switching power supply, DC-DC power supply module,conversion adapter, charger, DC motor circuit filter, digital audio, digital TV, digital camera, digital video camera, satellite receivers, equipment control panel power supply and etc.
footprint WCAP-AS5H 4x5.5x1
pins: 1, 2

## WCAP-AS5H 5x5.5x1.4 865230542002
designator C?, comment 10 μF
WCAP-AS5H Aluminum Electrolytic Capacitors , 10 μF; + / - 20%; 35 V , 5 x 5,5; Manufacturer: Wurth Elektronik; partNo: 865230542002; E-mail: libraries@we-online.com; Characteristics: Aluminum Electrolytic Capacitor; Recommended soldering: Reflow; Operating temperature: –40 °C to +105 °C; Long life product series; Load life: 5000 h @ +105 °C; ComponentLink1Description: Manufacturer; ComponentLink1URL: http://www.we-online.com; ComponentLink2Description: Datasheet; ComponentLink2URL: http://katalog.we-online.de/pbs/datasheet/865230542002.pdf; Created by: Karrer Zheng; Created Date: 6/12/2015; Capacitance: 10 μF; Application: Applied to circuit with higher requirements for long life, and can be use for filtering in switching power supply, DC-DC power supply module,conversion adapter, charger, DC motor circuit filter, digital audio, digital TV, digital camera, digital video camera, satellite receivers, equipment control panel power supply and etc.
footprint WCAP-AS5H 5x5.5x1.4
pins: 1, 2

## WCAP-AS5H 6.3x5.5x2.2 865230543003
designator C?, comment 22 μF
WCAP-AS5H Aluminum Electrolytic Capacitors , 22 μF; + / - 20%; 35 V , 6,3 x 5,5; Manufacturer: Wurth Elektronik; partNo: 865230543003; E-mail: libraries@we-online.com; Characteristics: Aluminum Electrolytic Capacitor; Recommended soldering: Reflow; Operating temperature: –40 °C to +105 °C; Long life product series; Load life: 5000 h @ +105 °C; ComponentLink1Description: Manufacturer; ComponentLink1URL: http://www.we-online.com; ComponentLink2Description: Datasheet; ComponentLink2URL: http://katalog.we-online.de/pbs/datasheet/865230543003.pdf; Created by: Karrer Zheng; Created Date: 6/12/2015; Capacitance: 22 μF; Application: Applied to circuit with higher requirements for long life, and can be use for filtering in switching power supply, DC-DC power supply module,conversion adapter, charger, DC motor circuit filter, digital audio, digital TV, digital camera, digital video camera, satellite receivers, equipment control panel power supply and etc.
footprint WCAP-AS5H 6.3x5.5x2.2
pins: 1, 2

## WCAP-AS5H 6.3x7.7x2.2 865230545004
designator C?, comment 33 μF
WCAP-AS5H Aluminum Electrolytic Capacitors , 33 μF; + / - 20%; 35 V , 6,3 x 7,7; Manufacturer: Wurth Elektronik; partNo: 865230545004; E-mail: libraries@we-online.com; Characteristics: Aluminum Electrolytic Capacitor; Recommended soldering: Reflow; Operating temperature: –40 °C to +105 °C; Long life product series; Load life: 5000 h @ +105 °C; ComponentLink1Description: Manufacturer; ComponentLink1URL: http://www.we-online.com; ComponentLink2Description: Datasheet; ComponentLink2URL: http://katalog.we-online.de/pbs/datasheet/865230545004.pdf; Created by: Karrer Zheng; Created Date: 6/12/2015; Capacitance: 33 μF; Application: Applied to circuit with higher requirements for long life, and can be use for filtering in switching power supply, DC-DC power supply module,conversion adapter, charger, DC motor circuit filter, digital audio, digital TV, digital camera, digital video camera, satellite receivers, equipment control panel power supply and etc.
footprint WCAP-AS5H 6.3x7.7x2.2
pins: 1, 2

## WCAP-AS5H 8x10.5x3.1 865230553005
designator C?, comment 47 μF
WCAP-AS5H Aluminum Electrolytic Capacitors , 47 μF; + / - 20%; 35 V , 8 x 10,5; Manufacturer: Wurth Elektronik; partNo: 865230553005; E-mail: libraries@we-online.com; Characteristics: Aluminum Electrolytic Capacitor; Recommended soldering: Reflow; Operating temperature: –40 °C to +105 °C; Long life product series; Load life: 5000 h @ +105 °C; ComponentLink1Description: Manufacturer; ComponentLink1URL: http://www.we-online.com; ComponentLink2Description: Datasheet; ComponentLink2URL: http://katalog.we-online.de/pbs/datasheet/865230553005.pdf; Created by: Karrer Zheng; Created Date: 6/12/2015; Capacitance: 47 μF; Application: Applied to circuit with higher requirements for long life, and can be use for filtering in switching power supply, DC-DC power supply module,conversion adapter, charger, DC motor circuit filter, digital audio, digital TV, digital camera, digital video camera, satellite receivers, equipment control panel power supply and etc.
footprint WCAP-AS5H 8x10.5x3.1
pins: 1, 2

## WCAP-AS5H 10x10.5x4.5 865230557006
designator C?, comment 100 μF
WCAP-AS5H Aluminum Electrolytic Capacitors , 100 μF; + / - 20%; 35 V , 10 x 10,5; Manufacturer: Wurth Elektronik; partNo: 865230557006; E-mail: libraries@we-online.com; Characteristics: Aluminum Electrolytic Capacitor; Recommended soldering: Reflow; Operating temperature: –40 °C to +105 °C; Long life product series; Load life: 5000 h @ +105 °C; ComponentLink1Description: Manufacturer; ComponentLink1URL: http://www.we-online.com; ComponentLink2Description: Datasheet; ComponentLink2URL: http://katalog.we-online.de/pbs/datasheet/865230557006.pdf; Created by: Karrer Zheng; Created Date: 6/12/2015; Capacitance: 100 μF; Application: Applied to circuit with higher requirements for long life, and can be use for filtering in switching power supply, DC-DC power supply module,conversion adapter, charger, DC motor circuit filter, digital audio, digital TV, digital camera, digital video camera, satellite receivers, equipment control panel power supply and etc.
footprint WCAP-AS5H 10x10.5x4.5
pins: 1, 2

## WCAP-AS5H 10x10.5x4.5 865230557007
designator C?, comment 220 μF
WCAP-AS5H Aluminum Electrolytic Capacitors , 220 μF; + / - 20%; 35 V , 10 x 10,5; Manufacturer: Wurth Elektronik; partNo: 865230557007; E-mail: libraries@we-online.com; Characteristics: Aluminum Electrolytic Capacitor; Recommended soldering: Reflow; Operating temperature: –40 °C to +105 °C; Long life product series; Load life: 5000 h @ +105 °C; ComponentLink1Description: Manufacturer; ComponentLink1URL: http://www.we-online.com; ComponentLink2Description: Datasheet; ComponentLink2URL: http://katalog.we-online.de/pbs/datasheet/865230557007.pdf; Created by: Karrer Zheng; Created Date: 6/12/2015; Capacitance: 220 μF; Application: Applied to circuit with higher requirements for long life, and can be use for filtering in switching power supply, DC-DC power supply module,conversion adapter, charger, DC motor circuit filter, digital audio, digital TV, digital camera, digital video camera, satellite receivers, equipment control panel power supply and etc.
footprint WCAP-AS5H 10x10.5x4.5
pins: 1, 2


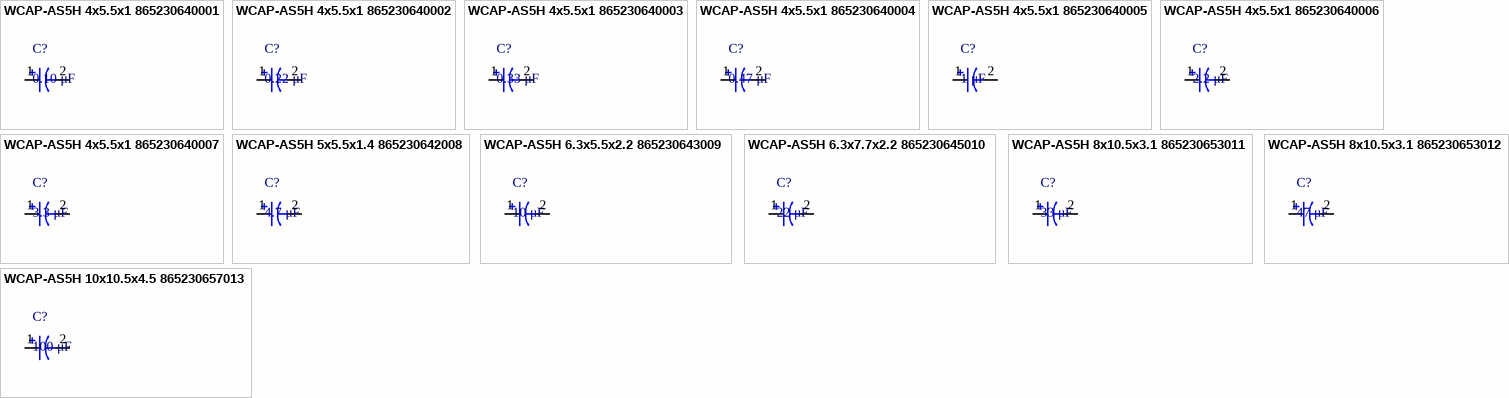
[diagram p5: symbols WCAP-AS5H 4x5.5x1 865230640001 to WCAP-AS5H 10x10.5x4.5 865230657013]

## WCAP-AS5H 4x5.5x1 865230640001
designator C?, comment 0.10 μF
WCAP-AS5H Aluminum Electrolytic Capacitors , 0,10 μF; + / - 20%; 50 V , 4 x 5,5; Manufacturer: Wurth Elektronik; partNo: 865230640001; E-mail: libraries@we-online.com; Characteristics: Aluminum Electrolytic Capacitor; Recommended soldering: Reflow; Operating temperature: –40 °C to +105 °C; Long life product series; Load life: 5000 h @ +105 °C; ComponentLink1Description: Manufacturer; ComponentLink1URL: http://www.we-online.com; ComponentLink2Description: Datasheet; ComponentLink2URL: http://katalog.we-online.de/pbs/datasheet/865230640001.pdf; Created by: Karrer Zheng; Created Date: 6/12/2015; Capacitance: 0.10 μF; Application: Applied to circuit with higher requirements for long life, and can be use for filtering in switching power supply, DC-DC power supply module,conversion adapter, charger, DC motor circuit filter, digital audio, digital TV, digital camera, digital video camera, satellite receivers, equipment control panel power supply and etc.
footprint WCAP-AS5H 4x5.5x1
pins: 1, 2

## WCAP-AS5H 4x5.5x1 865230640002
designator C?, comment 0.22 μF
WCAP-AS5H Aluminum Electrolytic Capacitors , 0,22 μF; + / - 20%; 50 V , 4 x 5,5; Manufacturer: Wurth Elektronik; partNo: 865230640002; E-mail: libraries@we-online.com; Characteristics: Aluminum Electrolytic Capacitor; Recommended soldering: Reflow; Operating temperature: –40 °C to +105 °C; Long life product series; Load life: 5000 h @ +105 °C; ComponentLink1Description: Manufacturer; ComponentLink1URL: http://www.we-online.com; ComponentLink2Description: Datasheet; ComponentLink2URL: http://katalog.we-online.de/pbs/datasheet/865230640002.pdf; Created by: Karrer Zheng; Created Date: 6/12/2015; Capacitance: 0.22 μF; Application: Applied to circuit with higher requirements for long life, and can be use for filtering in switching power supply, DC-DC power supply module,conversion adapter, charger, DC motor circuit filter, digital audio, digital TV, digital camera, digital video camera, satellite receivers, equipment control panel power supply and etc.
footprint WCAP-AS5H 4x5.5x1
pins: 1, 2

## WCAP-AS5H 4x5.5x1 865230640003
designator C?, comment 0.33 μF
WCAP-AS5H Aluminum Electrolytic Capacitors , 0,33 μF; + / - 20%; 50 V , 4 x 5,5; Manufacturer: Wurth Elektronik; partNo: 865230640003; E-mail: libraries@we-online.com; Characteristics: Aluminum Electrolytic Capacitor; Recommended soldering: Reflow; Operating temperature: –40 °C to +105 °C; Long life product series; Load life: 5000 h @ +105 °C; ComponentLink1Description: Manufacturer; ComponentLink1URL: http://www.we-online.com; ComponentLink2Description: Datasheet; ComponentLink2URL: http://katalog.we-online.de/pbs/datasheet/865230640003.pdf; Created by: Karrer Zheng; Created Date: 6/12/2015; Capacitance: 0.33 μF; Application: Applied to circuit with higher requirements for long life, and can be use for filtering in switching power supply, DC-DC power supply module,conversion adapter, charger, DC motor circuit filter, digital audio, digital TV, digital camera, digital video camera, satellite receivers, equipment control panel power supply and etc.
footprint WCAP-AS5H 4x5.5x1
pins: 1, 2

## WCAP-AS5H 4x5.5x1 865230640004
designator C?, comment 0.47 μF
WCAP-AS5H Aluminum Electrolytic Capacitors , 0,47 μF; + / - 20%; 50 V , 4 x 5,5; Manufacturer: Wurth Elektronik; partNo: 865230640004; E-mail: libraries@we-online.com; Characteristics: Aluminum Electrolytic Capacitor; Recommended soldering: Reflow; Operating temperature: –40 °C to +105 °C; Long life product series; Load life: 5000 h @ +105 °C; ComponentLink1Description: Manufacturer; ComponentLink1URL: http://www.we-online.com; ComponentLink2Description: Datasheet; ComponentLink2URL: http://katalog.we-online.de/pbs/datasheet/865230640004.pdf; Created by: Karrer Zheng; Created Date: 6/12/2015; Capacitance: 0.47 μF; Application: Applied to circuit with higher requirements for long life, and can be use for filtering in switching power supply, DC-DC power supply module,conversion adapter, charger, DC motor circuit filter, digital audio, digital TV, digital camera, digital video camera, satellite receivers, equipment control panel power supply and etc.
footprint WCAP-AS5H 4x5.5x1
pins: 1, 2

## WCAP-AS5H 4x5.5x1 865230640005
designator C?, comment 1 μF
WCAP-AS5H Aluminum Electrolytic Capacitors , 1 μF; + / - 20%; 50 V , 4 x 5,5; Manufacturer: Wurth Elektronik; partNo: 865230640005; E-mail: libraries@we-online.com; Characteristics: Aluminum Electrolytic Capacitor; Recommended soldering: Reflow; Operating temperature: –40 °C to +105 °C; Long life product series; Load life: 5000 h @ +105 °C; ComponentLink1Description: Manufacturer; ComponentLink1URL: http://www.we-online.com; ComponentLink2Description: Datasheet; ComponentLink2URL: http://katalog.we-online.de/pbs/datasheet/865230640005.pdf; Created by: Karrer Zheng; Created Date: 6/12/2015; Capacitance: 1 μF; Application: Applied to circuit with higher requirements for long life, and can be use for filtering in switching power supply, DC-DC power supply module,conversion adapter, charger, DC motor circuit filter, digital audio, digital TV, digital camera, digital video camera, satellite receivers, equipment control panel power supply and etc.
footprint WCAP-AS5H 4x5.5x1
pins: 1, 2

## WCAP-AS5H 4x5.5x1 865230640006
designator C?, comment 2.2 μF
WCAP-AS5H Aluminum Electrolytic Capacitors , 2,2 μF; + / - 20%; 50 V , 4 x 5,5; Manufacturer: Wurth Elektronik; partNo: 865230640006; E-mail: libraries@we-online.com; Characteristics: Aluminum Electrolytic Capacitor; Recommended soldering: Reflow; Operating temperature: –40 °C to +105 °C; Long life product series; Load life: 5000 h @ +105 °C; ComponentLink1Description: Manufacturer; ComponentLink1URL: http://www.we-online.com; ComponentLink2Description: Datasheet; ComponentLink2URL: http://katalog.we-online.de/pbs/datasheet/865230640006.pdf; Created by: Karrer Zheng; Created Date: 6/12/2015; Capacitance: 2.2 μF; Application: Applied to circuit with higher requirements for long life, and can be use for filtering in switching power supply, DC-DC power supply module,conversion adapter, charger, DC motor circuit filter, digital audio, digital TV, digital camera, digital video camera, satellite receivers, equipment control panel power supply and etc.
footprint WCAP-AS5H 4x5.5x1
pins: 1, 2

## WCAP-AS5H 4x5.5x1 865230640007
designator C?, comment 3.3 μF
WCAP-AS5H Aluminum Electrolytic Capacitors , 3,3 μF; + / - 20%; 50 V , 4 x 5,5; Manufacturer: Wurth Elektronik; partNo: 865230640007; E-mail: libraries@we-online.com; Characteristics: Aluminum Electrolytic Capacitor; Recommended soldering: Reflow; Operating temperature: –40 °C to +105 °C; Long life product series; Load life: 5000 h @ +105 °C; ComponentLink1Description: Manufacturer; ComponentLink1URL: http://www.we-online.com; ComponentLink2Description: Datasheet; ComponentLink2URL: http://katalog.we-online.de/pbs/datasheet/865230640007.pdf; Created by: Karrer Zheng; Created Date: 6/12/2015; Capacitance: 3.3 μF; Application: Applied to circuit with higher requirements for long life, and can be use for filtering in switching power supply, DC-DC power supply module,conversion adapter, charger, DC motor circuit filter, digital audio, digital TV, digital camera, digital video camera, satellite receivers, equipment control panel power supply and etc.
footprint WCAP-AS5H 4x5.5x1
pins: 1, 2

## WCAP-AS5H 5x5.5x1.4 865230642008
designator C?, comment 4.7 μF
WCAP-AS5H Aluminum Electrolytic Capacitors , 4,7 μF; + / - 20%; 50 V , 5 x 5,5; Manufacturer: Wurth Elektronik; partNo: 865230642008; E-mail: libraries@we-online.com; Characteristics: Aluminum Electrolytic Capacitor; Recommended soldering: Reflow; Operating temperature: –40 °C to +105 °C; Long life product series; Load life: 5000 h @ +105 °C; ComponentLink1Description: Manufacturer; ComponentLink1URL: http://www.we-online.com; ComponentLink2Description: Datasheet; ComponentLink2URL: http://katalog.we-online.de/pbs/datasheet/865230642008.pdf; Created by: Karrer Zheng; Created Date: 6/12/2015; Capacitance: 4.7 μF; Application: Applied to circuit with higher requirements for long life, and can be use for filtering in switching power supply, DC-DC power supply module,conversion adapter, charger, DC motor circuit filter, digital audio, digital TV, digital camera, digital video camera, satellite receivers, equipment control panel power supply and etc.
footprint WCAP-AS5H 5x5.5x1.4
pins: 1, 2